# EAGLE library part VCNL3020 (library launchpad_bp)
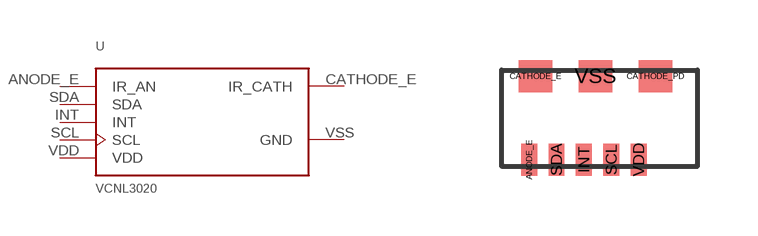
[diagram p3: symbol with the pads of VCNL3020; footprint VCNL3020]

Designator prefix -

## VCNL3020  [VCNL3020]
ANODE_E  IR_AN  pas
CATHODE_E  IR_CATH  pas
INT  INT  out
SCL  SCL  in
SDA  SDA
VDD  VDD  pwr
VSS  GND  pwr

## Footprint VCNL3020 (pad centres in mm)
smd 0.4 x 0.8: ANODE_E -1.61,-1.24; INT -0.24,-1.24; SCL 0.445,-1.24; SDA -0.925,-1.24; VDD 1.13,-1.24
smd 0.83 x 0.8: CATHODE_E -1.45,0.85; CATHODE_PD 1.55,0.85; VSS 0.05,0.85